# Altium integrated library Micron Memory Parallel NOR Flash.IntLib: 720 symbols (part 71 of 216)
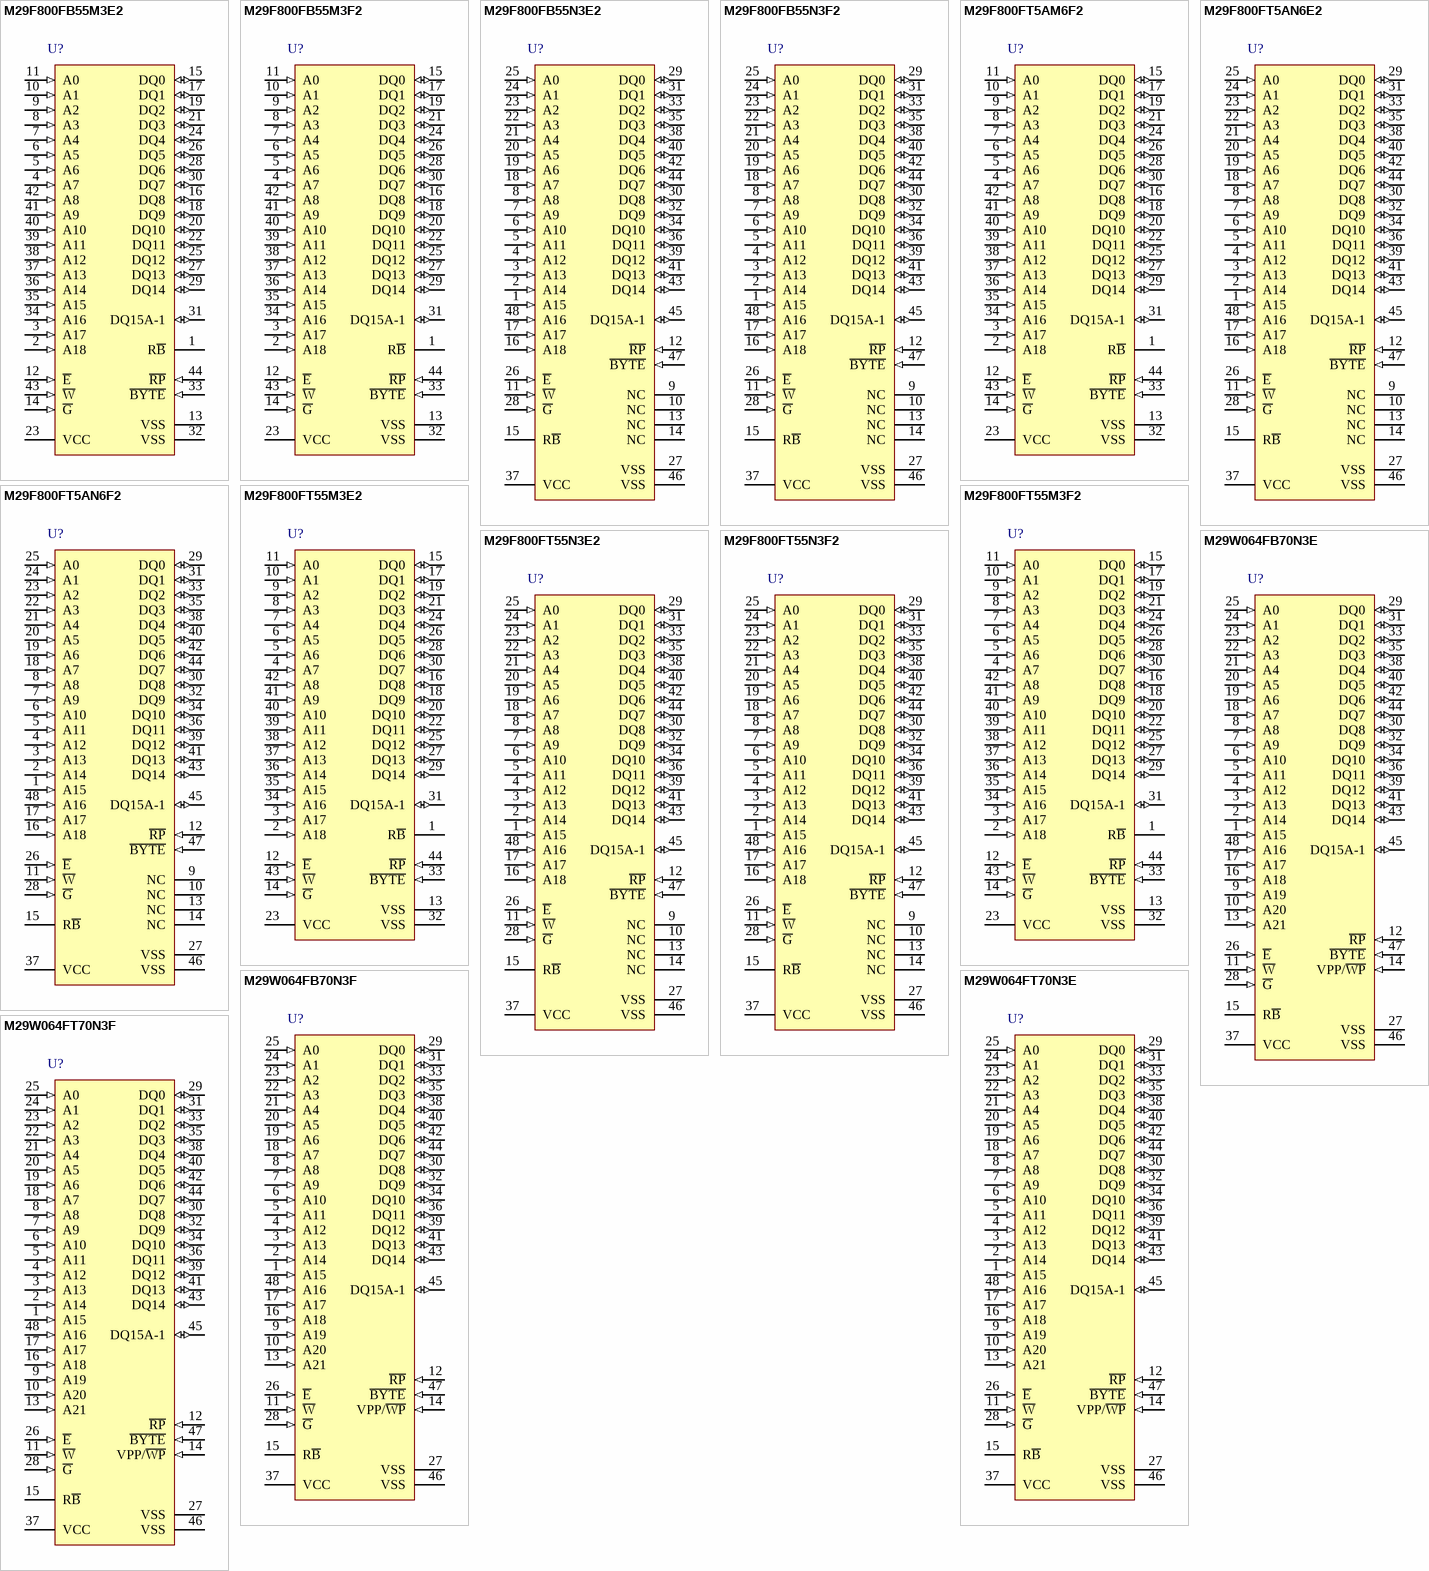
[diagram p117: symbols M29F800FB55M3E2 to M29W064FT70N3F]

## M29F800FT55M3E2
designator U?
8 Mb (x8/x16) Automotive Parallel NOR Flash Memory, 55 ns, 4.5 to 5.5 V, 44-pin SOIC (M), Tray; Part Family: M29F; Manufacturer: Micron; PartNumber: M29F800FT55M3E2; Density: 8Mb; Op Temp: -40C to +125C; Speed: 55ns; Voltage: 4.5V-5.5V; DatasheetVersion: Rev. 9; PackageVersion: Rev. 9; PackageReference: MICT-M-44; PackageDescription: 44-Pin SOIC, 12.6 X 28.5 mm, Pitch 1.27 mm; RoHS: Yes; Width: x8/x16; Mounting Technology: Surface Mount; ComponentLink1Description: Manufacturer URL; ComponentLink1URL: http://www.micron.com/; ComponentLink2Description: Datasheet; ComponentLink2URL: http://www.micron.com/~/media/Documents/Products/Data%20Sheet/NOR%20Flash/M29FxxFT%20FB.pdf; ComponentLink3Description: Package Specification; ComponentLink3URL: http://www.micron.com/~/media/Documents/Products/Data%20Sheet/NOR%20Flash/M29FxxFT%20FB.pdf
footprint MICT-M-44_N (SOIC, 44-Leads, Body 28.60x12.70mm, Pitch 1.27mm, IPC Medium Density)
pins: 1 R~{B} (hiz) "The Ready/Busy pin is an open-drain output that can be used to identify when the device is  performing a Program or Erase operation. During Program or Erase operations Ready/Busy  is Low, VOL . Ready/Busy is high-impedance (See Datasheet)", 2 A18 (in) "The Address Input select the cells in the memory array to access during Bus Read  operations. During Bus Write operations they control the commands sent to the Command  Interface of the Program/Erase Controller.", 3 A17 (in) "The Address Input select the cells in the memory array to access during Bus Read  operations. During Bus Write operations they control the commands sent to the Command  Interface of the Program/Erase Controller.", 4 A7 (in) "The Address Input select the cells in the memory array to access during Bus Read  operations. During Bus Write operations they control the commands sent to the Command  Interface of the Program/Erase Controller.", 5 A6 (in) "The Address Input select the cells in the memory array to access during Bus Read  operations. During Bus Write operations they control the commands sent to the Command  Interface of the Program/Erase Controller.", 6 A5 (in) "The Address Input select the cells in the memory array to access during Bus Read  operations. During Bus Write operations they control the commands sent to the Command  Interface of the Program/Erase Controller.", 7 A4 (in) "The Address Input select the cells in the memory array to access during Bus Read  operations. During Bus Write operations they control the commands sent to the Command  Interface of the Program/Erase Controller.", 8 A3 (in) "The Address Input select the cells in the memory array to access during Bus Read  operations. During Bus Write operations they control the commands sent to the Command  Interface of the Program/Erase Controller.", 9 A2 (in) "The Address Input select the cells in the memory array to access during Bus Read  operations. During Bus Write operations they control the commands sent to the Command  Interface of the Program/Erase Controller.", 10 A1 (in) "The Address Input select the cells in the memory array to access during Bus Read  operations. During Bus Write operations they control the commands sent to the Command  Interface of the Program/Erase Controller.", 11 A0 (in) "The Address Input select the cells in the memory array to access during Bus Read  operations. During Bus Write operations they control the commands sent to the Command  Interface of the Program/Erase Controller.", 12 ~{E} (in) "The Chip Enable, E\, activates the memory, allowing Bus Read and Bus Write operations to  be performed. When Chip Enable is High, VIH, all other pins are ignored.", 13 VSS (power) "The VSS Ground is the reference for all voltage measurements. The two VSS pins of the  device must be connected to the system ground.", 14 ~{G} (in) "The Output Enable, G\, controls the Bus Read operation of the memory.", 15 DQ0 (io) "The Data Input/Output output the data stored at the selected address during a Bus Read  operation. During Bus Write operations they represent the commands sent to the Command  Interface of the Program/Erase Controller.", 16 DQ8 (io) "The Data Input/Output output the data stored at the selected address during a Bus Read  operation when B\Y\T\E\ is High, VIH. When B\Y\T\E\ is Low, VIL , these pins are not used and are  high impedance. During Bus Write (See Datasheet)", 17 DQ1 (io) "The Data Input/Output output the data stored at the selected address during a Bus Read  operation. During Bus Write operations they represent the commands sent to the Command  Interface of the Program/Erase Controller.", 18 DQ9 (io) "The Data Input/Output output the data stored at the selected address during a Bus Read  operation when B\Y\T\E\ is High, VIH. When B\Y\T\E\ is Low, VIL , these pins are not used and are  high impedance. During Bus Write (See Datasheet)", 19 DQ2 (io) "The Data Input/Output output the data stored at the selected address during a Bus Read  operation. During Bus Write operations they represent the commands sent to the Command  Interface of the Program/Erase Controller.", 20 DQ10 (io) "The Data Input/Output output the data stored at the selected address during a Bus Read  operation when B\Y\T\E\ is High, VIH. When B\Y\T\E\ is Low, VIL , these pins are not used and are  high impedance. During Bus Write (See Datasheet)", 21 DQ3 (io) "The Data Input/Output output the data stored at the selected address during a Bus Read  operation. During Bus Write operations they represent the commands sent to the Command  Interface of the Program/Erase Controller.", 22 DQ11 (io) "The Data Input/Output output the data stored at the selected address during a Bus Read  operation when B\Y\T\E\ is High, VIH. When B\Y\T\E\ is Low, VIL , these pins are not used and are  high impedance. During Bus Write (See Datasheet)", 23 VCC (power) "The VCC Supply Voltage supplies the power for all operations (Read, Program, Erase etc.).", 24 DQ4 (io) "The Data Input/Output output the data stored at the selected address during a Bus Read  operation. During Bus Write operations they represent the commands sent to the Command  Interface of the Program/Erase Controller.", 25 DQ12 (io) "The Data Input/Output output the data stored at the selected address during a Bus Read  operation when B\Y\T\E\ is High, VIH. When B\Y\T\E\ is Low, VIL , these pins are not used and are  high impedance. During Bus Write (See Datasheet)", 26 DQ5 (io) "The Data Input/Output output the data stored at the selected address during a Bus Read  operation. During Bus Write operations they represent the commands sent to the Command  Interface of the Program/Erase Controller.", 27 DQ13 (io) "The Data Input/Output output the data stored at the selected address during a Bus Read  operation when B\Y\T\E\ is High, VIH. When B\Y\T\E\ is Low, VIL , these pins are not used and are  high impedance. During Bus Write (See Datasheet)", 28 DQ6 (io) "The Data Input/Output output the data stored at the selected address during a Bus Read  operation. During Bus Write operations they represent the commands sent to the Command  Interface of the Program/Erase Controller.", 29 DQ14 (io) "The Data Input/Output output the data stored at the selected address during a Bus Read  operation when B\Y\T\E\ is High, VIH. When B\Y\T\E\ is Low, VIL , these pins are not used and are  high impedance. During Bus Write (See Datasheet)", 30 DQ7 (io) "The Data Input/Output output the data stored at the selected address during a Bus Read  operation. During Bus Write operations they represent the commands sent to the Command  Interface of the Program/Erase Controller.", 31 DQ15A-1 (io) "When B\Y\T\E\ is High, VIH, this pin behaves as a Data Input/Output pin (as DQ8-DQ14).  When B\Y\T\E\ is Low, VIL , this pin behaves as an address pin; DQ15A-1 Low will select the  LSB of the Word on the other addresses, (See Datasheet)", 32 VSS (power) "The VSS Ground is the reference for all voltage measurements. The two VSS pins of the  device must be connected to the system ground.", 33 ~{BYTE} (in) "The Byte/Word Organization Select pin is used to switch between the 8-bit and 16-bit Bus  modes of the memory. When Byte/Word Organization Select is Low, VIL , the memory is in 8- bit mode, when it is High, VIH, the memory (See Datasheet)", 34 A16 (in) "The Address Input select the cells in the memory array to access during Bus Read  operations. During Bus Write operations they control the commands sent to the Command  Interface of the Program/Erase Controller.", 35 A15 (in) "The Address Input select the cells in the memory array to access during Bus Read  operations. During Bus Write operations they control the commands sent to the Command  Interface of the Program/Erase Controller.", 36 A14 (in) "The Address Input select the cells in the memory array to access during Bus Read  operations. During Bus Write operations they control the commands sent to the Command  Interface of the Program/Erase Controller.", 37 A13 (in) "The Address Input select the cells in the memory array to access during Bus Read  operations. During Bus Write operations they control the commands sent to the Command  Interface of the Program/Erase Controller.", 38 A12 (in) "The Address Input select the cells in the memory array to access during Bus Read  operations. During Bus Write operations they control the commands sent to the Command  Interface of the Program/Erase Controller.", 39 A11 (in) "The Address Input select the cells in the memory array to access during Bus Read  operations. During Bus Write operations they control the commands sent to the Command  Interface of the Program/Erase Controller.", 40 A10 (in) "The Address Input select the cells in the memory array to access during Bus Read  operations. During Bus Write operations they control the commands sent to the Command  Interface of the Program/Erase Controller.", 41 A9 (in) "The Address Input select the cells in the memory array to access during Bus Read  operations. During Bus Write operations they control the commands sent to the Command  Interface of the Program/Erase Controller.", 42 A8 (in) "The Address Input select the cells in the memory array to access during Bus Read  operations. During Bus Write operations they control the commands sent to the Command  Interface of the Program/Erase Controller.", 43 ~{W} (in) "The Write Enable, W\, controls the Bus Write operation of the memory's Command Interface.", 44 ~{RP} (in) "The Reset/Block Temporary Unprotect pin can be used to apply a Hardware Reset to the  memory or to temporarily unprotect all Blocks that have been protected."

## M29F800FT55M3F2
designator U?
8 Mb (x8/x16) Automotive Parallel NOR Flash Memory, 55 ns, 4.5 to 5.5 V, 44-pin SOIC (M), Tape & Reel; Part Family: M29F; Manufacturer: Micron; PartNumber: M29F800FT55M3F2; Density: 8Mb; Op Temp: -40C to +125C; Speed: 55ns; Voltage: 4.5V-5.5V; DatasheetVersion: Rev. 9; PackageVersion: Rev. 9; PackageReference: MICT-M-44; PackageDescription: 44-Pin SOIC, 12.6 X 28.5 mm, Pitch 1.27 mm; RoHS: Yes; Width: x8/x16; Mounting Technology: Surface Mount; ComponentLink1Description: Manufacturer URL; ComponentLink1URL: http://www.micron.com/; ComponentLink2Description: Datasheet; ComponentLink2URL: http://www.micron.com/~/media/Documents/Products/Data%20Sheet/NOR%20Flash/M29FxxFT%20FB.pdf; ComponentLink3Description: Package Specification; ComponentLink3URL: http://www.micron.com/~/media/Documents/Products/Data%20Sheet/NOR%20Flash/M29FxxFT%20FB.pdf
footprint MICT-M-44_N (SOIC, 44-Leads, Body 28.60x12.70mm, Pitch 1.27mm, IPC Medium Density)
pins: 1 R~{B} (hiz) "The Ready/Busy pin is an open-drain output that can be used to identify when the device is  performing a Program or Erase operation. During Program or Erase operations Ready/Busy  is Low, VOL . Ready/Busy is high-impedance (See Datasheet)", 2 A18 (in) "The Address Input select the cells in the memory array to access during Bus Read  operations. During Bus Write operations they control the commands sent to the Command  Interface of the Program/Erase Controller.", 3 A17 (in) "The Address Input select the cells in the memory array to access during Bus Read  operations. During Bus Write operations they control the commands sent to the Command  Interface of the Program/Erase Controller.", 4 A7 (in) "The Address Input select the cells in the memory array to access during Bus Read  operations. During Bus Write operations they control the commands sent to the Command  Interface of the Program/Erase Controller.", 5 A6 (in) "The Address Input select the cells in the memory array to access during Bus Read  operations. During Bus Write operations they control the commands sent to the Command  Interface of the Program/Erase Controller.", 6 A5 (in) "The Address Input select the cells in the memory array to access during Bus Read  operations. During Bus Write operations they control the commands sent to the Command  Interface of the Program/Erase Controller.", 7 A4 (in) "The Address Input select the cells in the memory array to access during Bus Read  operations. During Bus Write operations they control the commands sent to the Command  Interface of the Program/Erase Controller.", 8 A3 (in) "The Address Input select the cells in the memory array to access during Bus Read  operations. During Bus Write operations they control the commands sent to the Command  Interface of the Program/Erase Controller.", 9 A2 (in) "The Address Input select the cells in the memory array to access during Bus Read  operations. During Bus Write operations they control the commands sent to the Command  Interface of the Program/Erase Controller.", 10 A1 (in) "The Address Input select the cells in the memory array to access during Bus Read  operations. During Bus Write operations they control the commands sent to the Command  Interface of the Program/Erase Controller.", 11 A0 (in) "The Address Input select the cells in the memory array to access during Bus Read  operations. During Bus Write operations they control the commands sent to the Command  Interface of the Program/Erase Controller.", 12 ~{E} (in) "The Chip Enable, E\, activates the memory, allowing Bus Read and Bus Write operations to  be performed. When Chip Enable is High, VIH, all other pins are ignored.", 13 VSS (power) "The VSS Ground is the reference for all voltage measurements. The two VSS pins of the  device must be connected to the system ground.", 14 ~{G} (in) "The Output Enable, G\, controls the Bus Read operation of the memory.", 15 DQ0 (io) "The Data Input/Output output the data stored at the selected address during a Bus Read  operation. During Bus Write operations they represent the commands sent to the Command  Interface of the Program/Erase Controller.", 16 DQ8 (io) "The Data Input/Output output the data stored at the selected address during a Bus Read  operation when B\Y\T\E\ is High, VIH. When B\Y\T\E\ is Low, VIL , these pins are not used and are  high impedance. During Bus Write (See Datasheet)", 17 DQ1 (io) "The Data Input/Output output the data stored at the selected address during a Bus Read  operation. During Bus Write operations they represent the commands sent to the Command  Interface of the Program/Erase Controller.", 18 DQ9 (io) "The Data Input/Output output the data stored at the selected address during a Bus Read  operation when B\Y\T\E\ is High, VIH. When B\Y\T\E\ is Low, VIL , these pins are not used and are  high impedance. During Bus Write (See Datasheet)", 19 DQ2 (io) "The Data Input/Output output the data stored at the selected address during a Bus Read  operation. During Bus Write operations they represent the commands sent to the Command  Interface of the Program/Erase Controller.", 20 DQ10 (io) "The Data Input/Output output the data stored at the selected address during a Bus Read  operation when B\Y\T\E\ is High, VIH. When B\Y\T\E\ is Low, VIL , these pins are not used and are  high impedance. During Bus Write (See Datasheet)", 21 DQ3 (io) "The Data Input/Output output the data stored at the selected address during a Bus Read  operation. During Bus Write operations they represent the commands sent to the Command  Interface of the Program/Erase Controller.", 22 DQ11 (io) "The Data Input/Output output the data stored at the selected address during a Bus Read  operation when B\Y\T\E\ is High, VIH. When B\Y\T\E\ is Low, VIL , these pins are not used and are  high impedance. During Bus Write (See Datasheet)", 23 VCC (power) "The VCC Supply Voltage supplies the power for all operations (Read, Program, Erase etc.).", 24 DQ4 (io) "The Data Input/Output output the data stored at the selected address during a Bus Read  operation. During Bus Write operations they represent the commands sent to the Command  Interface of the Program/Erase Controller.", 25 DQ12 (io) "The Data Input/Output output the data stored at the selected address during a Bus Read  operation when B\Y\T\E\ is High, VIH. When B\Y\T\E\ is Low, VIL , these pins are not used and are  high impedance. During Bus Write (See Datasheet)", 26 DQ5 (io) "The Data Input/Output output the data stored at the selected address during a Bus Read  operation. During Bus Write operations they represent the commands sent to the Command  Interface of the Program/Erase Controller.", 27 DQ13 (io) "The Data Input/Output output the data stored at the selected address during a Bus Read  operation when B\Y\T\E\ is High, VIH. When B\Y\T\E\ is Low, VIL , these pins are not used and are  high impedance. During Bus Write (See Datasheet)", 28 DQ6 (io) "The Data Input/Output output the data stored at the selected address during a Bus Read  operation. During Bus Write operations they represent the commands sent to the Command  Interface of the Program/Erase Controller.", 29 DQ14 (io) "The Data Input/Output output the data stored at the selected address during a Bus Read  operation when B\Y\T\E\ is High, VIH. When B\Y\T\E\ is Low, VIL , these pins are not used and are  high impedance. During Bus Write (See Datasheet)", 30 DQ7 (io) "The Data Input/Output output the data stored at the selected address during a Bus Read  operation. During Bus Write operations they represent the commands sent to the Command  Interface of the Program/Erase Controller.", 31 DQ15A-1 (io) "When B\Y\T\E\ is High, VIH, this pin behaves as a Data Input/Output pin (as DQ8-DQ14).  When B\Y\T\E\ is Low, VIL , this pin behaves as an address pin; DQ15A-1 Low will select the  LSB of the Word on the other addresses, (See Datasheet)", 32 VSS (power) "The VSS Ground is the reference for all voltage measurements. The two VSS pins of the  device must be connected to the system ground.", 33 ~{BYTE} (in) "The Byte/Word Organization Select pin is used to switch between the 8-bit and 16-bit Bus  modes of the memory. When Byte/Word Organization Select is Low, VIL , the memory is in 8- bit mode, when it is High, VIH, the memory (See Datasheet)", 34 A16 (in) "The Address Input select the cells in the memory array to access during Bus Read  operations. During Bus Write operations they control the commands sent to the Command  Interface of the Program/Erase Controller.", 35 A15 (in) "The Address Input select the cells in the memory array to access during Bus Read  operations. During Bus Write operations they control the commands sent to the Command  Interface of the Program/Erase Controller.", 36 A14 (in) "The Address Input select the cells in the memory array to access during Bus Read  operations. During Bus Write operations they control the commands sent to the Command  Interface of the Program/Erase Controller.", 37 A13 (in) "The Address Input select the cells in the memory array to access during Bus Read  operations. During Bus Write operations they control the commands sent to the Command  Interface of the Program/Erase Controller.", 38 A12 (in) "The Address Input select the cells in the memory array to access during Bus Read  operations. During Bus Write operations they control the commands sent to the Command  Interface of the Program/Erase Controller.", 39 A11 (in) "The Address Input select the cells in the memory array to access during Bus Read  operations. During Bus Write operations they control the commands sent to the Command  Interface of the Program/Erase Controller.", 40 A10 (in) "The Address Input select the cells in the memory array to access during Bus Read  operations. During Bus Write operations they control the commands sent to the Command  Interface of the Program/Erase Controller.", 41 A9 (in) "The Address Input select the cells in the memory array to access during Bus Read  operations. During Bus Write operations they control the commands sent to the Command  Interface of the Program/Erase Controller.", 42 A8 (in) "The Address Input select the cells in the memory array to access during Bus Read  operations. During Bus Write operations they control the commands sent to the Command  Interface of the Program/Erase Controller.", 43 ~{W} (in) "The Write Enable, W\, controls the Bus Write operation of the memory's Command Interface.", 44 ~{RP} (in) "The Reset/Block Temporary Unprotect pin can be used to apply a Hardware Reset to the  memory or to temporarily unprotect all Blocks that have been protected."

## M29F800FT55N3E2
designator U?
8 Mb (x8/x16) Automotive Parallel NOR Flash Memory, 55 ns, 4.5 to 5.5 V, 48-pin TSOP (N), Tray; Part Family: M29F; Manufacturer: Micron; PartNumber: M29F800FT55N3E2; Density: 8Mb; Op Temp: -40C to +125C; Speed: 55ns; Voltage: 4.5V-5.5V; DatasheetVersion: Rev. 9; PackageVersion: Rev 11; PackageReference: MICT-N-48; PackageDescription: 48-Pin TSOP, 18.4 X 12 mm, Pitch 0.5 mm; RoHS: Yes; Width: x8/x16; Mounting Technology: Surface Mount; ComponentLink1Description: Manufacturer URL; ComponentLink1URL: http://www.micron.com/; ComponentLink2Description: Datasheet; ComponentLink2URL: http://www.micron.com/~/media/Documents/Products/Data%20Sheet/NOR%20Flash/M29FxxFT%20FB.pdf; ComponentLink3Description: Package Specification; ComponentLink3URL: http://www.micron.com/~/media/Documents/Products/Data%20Sheet/NOR%20Flash/Parallel/P30/306666_P30_130nm_Discrete_DS.pdf
footprint MICT-N-48_N (SOP, 48-Leads, Body 12x18.4mm, Pitch 0.5mm, IPC Medium Density)
pins: 1 A15 (in) "The Address Input selects the cells in the memory array to access during Bus Read  operations. During Bus Write operations they control the commands sent to the Command  Interface of the Program/Erase Controller.", 2 A14 (in) "The Address Input selects the cells in the memory array to access during Bus Read  operations. During Bus Write operations they control the commands sent to the Command  Interface of the Program/Erase Controller.", 3 A13 (in) "The Address Input selects the cells in the memory array to access during Bus Read  operations. During Bus Write operations they control the commands sent to the Command  Interface of the Program/Erase Controller.", 4 A12 (in) "The Address Input selects the cells in the memory array to access during Bus Read  operations. During Bus Write operations they control the commands sent to the Command  Interface of the Program/Erase Controller.", 5 A11 (in) "The Address Input selects the cells in the memory array to access during Bus Read  operations. During Bus Write operations they control the commands sent to the Command  Interface of the Program/Erase Controller.", 6 A10 (in) "The Address Input selects the cells in the memory array to access during Bus Read  operations. During Bus Write operations they control the commands sent to the Command  Interface of the Program/Erase Controller.", 7 A9 (in) "The Address Input selects the cells in the memory array to access during Bus Read  operations. During Bus Write operations they control the commands sent to the Command  Interface of the Program/Erase Controller.", 8 A8 (in) "The Address Input selects the cells in the memory array to access during Bus Read  operations. During Bus Write operations they control the commands sent to the Command  Interface of the Program/Erase Controller.", 9 NC "Not connected internally", 10 NC "Not connected internally", 11 ~{W} (in) "The Write Enable, W\, controls the Bus Write operation of the memory's Command Interface.", 12 ~{RP} (in) "The Reset/Block Temporary Unprotect pin can be used to apply a Hardware Reset to the  memory or to temporarily unprotect all Blocks that have been protected.A Hardware Reset is achieved by holding Reset/Block Temporary (See Datasheet)", 13 NC "Not connected internally", 14 NC "Not connected internally", 15 R~{B} (hiz) "The Ready/Busy pin is an open-drain output that can be used to identify when the device is  performing a Program or Erase operation. During Program or Erase operations Ready/Busy  is Low, VOL . Ready/Busy is high-impedance (See Datasheet)", 16 A18 (in) "The Address Input selects the cells in the memory array to access during Bus Read  operations. During Bus Write operations they control the commands sent to the Command  Interface of the Program/Erase Controller.", 17 A17 (in) "The Address Input selects the cells in the memory array to access during Bus Read  operations. During Bus Write operations they control the commands sent to the Command  Interface of the Program/Erase Controller.", 18 A7 (in) "The Address Input selects the cells in the memory array to access during Bus Read  operations. During Bus Write operations they control the commands sent to the Command  Interface of the Program/Erase Controller.", 19 A6 (in) "The Address Input selects the cells in the memory array to access during Bus Read  operations. During Bus Write operations they control the commands sent to the Command  Interface of the Program/Erase Controller.", 20 A5 (in) "The Address Input selects the cells in the memory array to access during Bus Read  operations. During Bus Write operations they control the commands sent to the Command  Interface of the Program/Erase Controller.", 21 A4 (in) "The Address Input selects the cells in the memory array to access during Bus Read  operations. During Bus Write operations they control the commands sent to the Command  Interface of the Program/Erase Controller.", 22 A3 (in) "The Address Input selects the cells in the memory array to access during Bus Read  operations. During Bus Write operations they control the commands sent to the Command  Interface of the Program/Erase Controller.", 23 A2 (in) "The Address Input selects the cells in the memory array to access during Bus Read  operations. During Bus Write operations they control the commands sent to the Command  Interface of the Program/Erase Controller.", 24 A1 (in) "The Address Input selects the cells in the memory array to access during Bus Read  operations. During Bus Write operations they control the commands sent to the Command  Interface of the Program/Erase Controller.", 25 A0 (in) "The Address Input selects the cells in the memory array to access during Bus Read  operations. During Bus Write operations they control the commands sent to the Command  Interface of the Program/Erase Controller.", 26 ~{E} (in) "The Chip Enable, E\, activates the memory, allowing Bus Read and Bus Write operations to  be performed. When Chip Enable is High, VIH, all other pins are ignored.", 27 VSS (power) "The VSS Ground is the reference for all voltage measurements. The two VSS pins of the  device must be connected to the system ground.", 28 ~{G} (in) "The Output Enable, G\, controls the Bus Read operation of the memory.", 29 DQ0 (io) "The Data Input/Output output the data stored at the selected address during a Bus Read  operation. During Bus Write operations they represent the commands sent to the Command  Interface of the Program/Erase Controller.", 30 DQ8 (io) "The Data Input/Output output the data stored at the selected address during a Bus Read  operation when B\Y\T\E\ is High, VIH. When B\Y\T\E\ is Low, VIL , these pins are not used and are  high impedance. During Bus Write (See Datasheet)", 31 DQ1 (io) "The Data Input/Output output the data stored at the selected address during a Bus Read  operation. During Bus Write operations they represent the commands sent to the Command  Interface of the Program/Erase Controller.", 32 DQ9 (io) "The Data Input/Output output the data stored at the selected address during a Bus Read  operation when B\Y\T\E\ is High, VIH. When B\Y\T\E\ is Low, VIL , these pins are not used and are  high impedance. During Bus Write (See Datasheet)", 33 DQ2 (io) "The Data Input/Output output the data stored at the selected address during a Bus Read  operation. During Bus Write operations they represent the commands sent to the Command  Interface of the Program/Erase Controller.", 34 DQ10 (io) "The Data Input/Output output the data stored at the selected address during a Bus Read  operation when B\Y\T\E\ is High, VIH. When B\Y\T\E\ is Low, VIL , these pins are not used and are  high impedance. During Bus Write (See Datasheet)", 35 DQ3 (io) "The Data Input/Output output the data stored at the selected address during a Bus Read  operation. During Bus Write operations they represent the commands sent to the Command  Interface of the Program/Erase Controller.", 36 DQ11 (io) "The Data Input/Output output the data stored at the selected address during a Bus Read  operation when B\Y\T\E\ is High, VIH. When B\Y\T\E\ is Low, VIL , these pins are not used and are  high impedance. During Bus Write (See Datasheet)", 37 VCC (power) "The VCC Supply Voltage supplies the power for all operations (Read, Program, Erase etc.).The Command Interface is disabled when the VCC Supply Voltage is less than the Lockout  Voltage, VLKO. This prevents Bus Write (See Datasheet)", 38 DQ4 (io) "The Data Input/Output output the data stored at the selected address during a Bus Read  operation. During Bus Write operations they represent the commands sent to the Command  Interface of the Program/Erase Controller.", 39 DQ12 (io) "The Data Input/Output output the data stored at the selected address during a Bus Read  operation when B\Y\T\E\ is High, VIH. When B\Y\T\E\ is Low, VIL , these pins are not used and are  high impedance. During Bus Write (See Datasheet)", 40 DQ5 (io) "The Data Input/Output output the data stored at the selected address during a Bus Read  operation. During Bus Write operations they represent the commands sent to the Command  Interface of the Program/Erase Controller.", 41 DQ13 (io) "The Data Input/Output output the data stored at the selected address during a Bus Read  operation when B\Y\T\E\ is High, VIH. When B\Y\T\E\ is Low, VIL , these pins are not used and are  high impedance. During Bus Write (See Datasheet)", 42 DQ6 (io) "The Data Input/Output output the data stored at the selected address during a Bus Read  operation. During Bus Write operations they represent the commands sent to the Command  Interface of the Program/Erase Controller.", 43 DQ14 (io) "The Data Input/Output output the data stored at the selected address during a Bus Read  operation when B\Y\T\E\ is High, VIH. When B\Y\T\E\ is Low, VIL , these pins are not used and are  high impedance. During Bus Write (See Datasheet)", 44 DQ7 (io) "The Data Input/Output output the data stored at the selected address during a Bus Read  operation. During Bus Write operations they represent the commands sent to the Command  Interface of the Program/Erase Controller.", 45 DQ15A-1 (io) "When B\Y\T\E\ is High, VIH, this pin behaves as a Data Input/Output pin (as DQ8-DQ14).  When B\Y\T\E\ is Low, VIL , this pin behaves as an address pin; DQ15A-1 Low will select the  LSB of the Word on the other addresses, (See Datasheet)", 46 VSS (power) "The VSS Ground is the reference for all voltage measurements. The two VSS pins of the  device must be connected to the system ground.", 47 ~{BYTE} (in) "The Byte/Word Organization Select pin is used to switch between the 8-bit and 16-bit Bus  modes of the memory. When Byte/Word Organization Select is Low, VIL , the memory is in 8- bit mode, when it is High, VIH, the memory (See Datasheet)", 48 A16 (in) "The Address Input selects the cells in the memory array to access during Bus Read  operations. During Bus Write operations they control the commands sent to the Command  Interface of the Program/Erase Controller."

## M29F800FT55N3F2
designator U?
8 Mb (x8/x16) Automotive Parallel NOR Flash Memory, 55 ns, 4.5 to 5.5 V, 48-pin TSOP (N), Tape & Reel; Part Family: M29F; Manufacturer: Micron; PartNumber: M29F800FT55N3F2; Density: 8Mb; Op Temp: -40C to +125C; Speed: 55ns; Voltage: 4.5V-5.5V; DatasheetVersion: Rev. 9; PackageVersion: Rev 11; PackageReference: MICT-N-48; PackageDescription: 48-Pin TSOP, 18.4 X 12 mm, Pitch 0.5 mm; RoHS: Yes; Width: x8/x16; Mounting Technology: Surface Mount; ComponentLink1Description: Manufacturer URL; ComponentLink1URL: http://www.micron.com/; ComponentLink2Description: Datasheet; ComponentLink2URL: http://www.micron.com/~/media/Documents/Products/Data%20Sheet/NOR%20Flash/M29FxxFT%20FB.pdf; ComponentLink3Description: Package Specification; ComponentLink3URL: http://www.micron.com/~/media/Documents/Products/Data%20Sheet/NOR%20Flash/Parallel/P30/306666_P30_130nm_Discrete_DS.pdf
footprint MICT-N-48_N (SOP, 48-Leads, Body 12x18.4mm, Pitch 0.5mm, IPC Medium Density)
pins: 1 A15 (in) "The Address Input selects the cells in the memory array to access during Bus Read  operations. During Bus Write operations they control the commands sent to the Command  Interface of the Program/Erase Controller.", 2 A14 (in) "The Address Input selects the cells in the memory array to access during Bus Read  operations. During Bus Write operations they control the commands sent to the Command  Interface of the Program/Erase Controller.", 3 A13 (in) "The Address Input selects the cells in the memory array to access during Bus Read  operations. During Bus Write operations they control the commands sent to the Command  Interface of the Program/Erase Controller.", 4 A12 (in) "The Address Input selects the cells in the memory array to access during Bus Read  operations. During Bus Write operations they control the commands sent to the Command  Interface of the Program/Erase Controller.", 5 A11 (in) "The Address Input selects the cells in the memory array to access during Bus Read  operations. During Bus Write operations they control the commands sent to the Command  Interface of the Program/Erase Controller.", 6 A10 (in) "The Address Input selects the cells in the memory array to access during Bus Read  operations. During Bus Write operations they control the commands sent to the Command  Interface of the Program/Erase Controller.", 7 A9 (in) "The Address Input selects the cells in the memory array to access during Bus Read  operations. During Bus Write operations they control the commands sent to the Command  Interface of the Program/Erase Controller.", 8 A8 (in) "The Address Input selects the cells in the memory array to access during Bus Read  operations. During Bus Write operations they control the commands sent to the Command  Interface of the Program/Erase Controller.", 9 NC "Not connected internally", 10 NC "Not connected internally", 11 ~{W} (in) "The Write Enable, W\, controls the Bus Write operation of the memory's Command Interface.", 12 ~{RP} (in) "The Reset/Block Temporary Unprotect pin can be used to apply a Hardware Reset to the  memory or to temporarily unprotect all Blocks that have been protected.A Hardware Reset is achieved by holding Reset/Block Temporary (See Datasheet)", 13 NC "Not connected internally", 14 NC "Not connected internally", 15 R~{B} (hiz) "The Ready/Busy pin is an open-drain output that can be used to identify when the device is  performing a Program or Erase operation. During Program or Erase operations Ready/Busy  is Low, VOL . Ready/Busy is high-impedance (See Datasheet)", 16 A18 (in) "The Address Input selects the cells in the memory array to access during Bus Read  operations. During Bus Write operations they control the commands sent to the Command  Interface of the Program/Erase Controller.", 17 A17 (in) "The Address Input selects the cells in the memory array to access during Bus Read  operations. During Bus Write operations they control the commands sent to the Command  Interface of the Program/Erase Controller.", 18 A7 (in) "The Address Input selects the cells in the memory array to access during Bus Read  operations. During Bus Write operations they control the commands sent to the Command  Interface of the Program/Erase Controller.", 19 A6 (in) "The Address Input selects the cells in the memory array to access during Bus Read  operations. During Bus Write operations they control the commands sent to the Command  Interface of the Program/Erase Controller.", 20 A5 (in) "The Address Input selects the cells in the memory array to access during Bus Read  operations. During Bus Write operations they control the commands sent to the Command  Interface of the Program/Erase Controller.", 21 A4 (in) "The Address Input selects the cells in the memory array to access during Bus Read  operations. During Bus Write operations they control the commands sent to the Command  Interface of the Program/Erase Controller.", 22 A3 (in) "The Address Input selects the cells in the memory array to access during Bus Read  operations. During Bus Write operations they control the commands sent to the Command  Interface of the Program/Erase Controller.", 23 A2 (in) "The Address Input selects the cells in the memory array to access during Bus Read  operations. During Bus Write operations they control the commands sent to the Command  Interface of the Program/Erase Controller.", 24 A1 (in) "The Address Input selects the cells in the memory array to access during Bus Read  operations. During Bus Write operations they control the commands sent to the Command  Interface of the Program/Erase Controller.", 25 A0 (in) "The Address Input selects the cells in the memory array to access during Bus Read  operations. During Bus Write operations they control the commands sent to the Command  Interface of the Program/Erase Controller.", 26 ~{E} (in) "The Chip Enable, E\, activates the memory, allowing Bus Read and Bus Write operations to  be performed. When Chip Enable is High, VIH, all other pins are ignored.", 27 VSS (power) "The VSS Ground is the reference for all voltage measurements. The two VSS pins of the  device must be connected to the system ground.", 28 ~{G} (in) "The Output Enable, G\, controls the Bus Read operation of the memory.", 29 DQ0 (io) "The Data Input/Output output the data stored at the selected address during a Bus Read  operation. During Bus Write operations they represent the commands sent to the Command  Interface of the Program/Erase Controller.", 30 DQ8 (io) "The Data Input/Output output the data stored at the selected address during a Bus Read  operation when B\Y\T\E\ is High, VIH. When B\Y\T\E\ is Low, VIL , these pins are not used and are  high impedance. During Bus Write (See Datasheet)", 31 DQ1 (io) "The Data Input/Output output the data stored at the selected address during a Bus Read  operation. During Bus Write operations they represent the commands sent to the Command  Interface of the Program/Erase Controller.", 32 DQ9 (io) "The Data Input/Output output the data stored at the selected address during a Bus Read  operation when B\Y\T\E\ is High, VIH. When B\Y\T\E\ is Low, VIL , these pins are not used and are  high impedance. During Bus Write (See Datasheet)", 33 DQ2 (io) "The Data Input/Output output the data stored at the selected address during a Bus Read  operation. During Bus Write operations they represent the commands sent to the Command  Interface of the Program/Erase Controller.", 34 DQ10 (io) "The Data Input/Output output the data stored at the selected address during a Bus Read  operation when B\Y\T\E\ is High, VIH. When B\Y\T\E\ is Low, VIL , these pins are not used and are  high impedance. During Bus Write (See Datasheet)", 35 DQ3 (io) "The Data Input/Output output the data stored at the selected address during a Bus Read  operation. During Bus Write operations they represent the commands sent to the Command  Interface of the Program/Erase Controller.", 36 DQ11 (io) "The Data Input/Output output the data stored at the selected address during a Bus Read  operation when B\Y\T\E\ is High, VIH. When B\Y\T\E\ is Low, VIL , these pins are not used and are  high impedance. During Bus Write (See Datasheet)", 37 VCC (power) "The VCC Supply Voltage supplies the power for all operations (Read, Program, Erase etc.).The Command Interface is disabled when the VCC Supply Voltage is less than the Lockout  Voltage, VLKO. This prevents Bus Write (See Datasheet)", 38 DQ4 (io) "The Data Input/Output output the data stored at the selected address during a Bus Read  operation. During Bus Write operations they represent the commands sent to the Command  Interface of the Program/Erase Controller.", 39 DQ12 (io) "The Data Input/Output output the data stored at the selected address during a Bus Read  operation when B\Y\T\E\ is High, VIH. When B\Y\T\E\ is Low, VIL , these pins are not used and are  high impedance. During Bus Write (See Datasheet)", 40 DQ5 (io) "The Data Input/Output output the data stored at the selected address during a Bus Read  operation. During Bus Write operations they represent the commands sent to the Command  Interface of the Program/Erase Controller.", 41 DQ13 (io) "The Data Input/Output output the data stored at the selected address during a Bus Read  operation when B\Y\T\E\ is High, VIH. When B\Y\T\E\ is Low, VIL , these pins are not used and are  high impedance. During Bus Write (See Datasheet)", 42 DQ6 (io) "The Data Input/Output output the data stored at the selected address during a Bus Read  operation. During Bus Write operations they represent the commands sent to the Command  Interface of the Program/Erase Controller.", 43 DQ14 (io) "The Data Input/Output output the data stored at the selected address during a Bus Read  operation when B\Y\T\E\ is High, VIH. When B\Y\T\E\ is Low, VIL , these pins are not used and are  high impedance. During Bus Write (See Datasheet)", 44 DQ7 (io) "The Data Input/Output output the data stored at the selected address during a Bus Read  operation. During Bus Write operations they represent the commands sent to the Command  Interface of the Program/Erase Controller.", 45 DQ15A-1 (io) "When B\Y\T\E\ is High, VIH, this pin behaves as a Data Input/Output pin (as DQ8-DQ14).  When B\Y\T\E\ is Low, VIL , this pin behaves as an address pin; DQ15A-1 Low will select the  LSB of the Word on the other addresses, (See Datasheet)", 46 VSS (power) "The VSS Ground is the reference for all voltage measurements. The two VSS pins of the  device must be connected to the system ground.", 47 ~{BYTE} (in) "The Byte/Word Organization Select pin is used to switch between the 8-bit and 16-bit Bus  modes of the memory. When Byte/Word Organization Select is Low, VIL , the memory is in 8- bit mode, when it is High, VIH, the memory (See Datasheet)", 48 A16 (in) "The Address Input selects the cells in the memory array to access during Bus Read  operations. During Bus Write operations they control the commands sent to the Command  Interface of the Program/Erase Controller."